# Altium footprint library LED.PcbLib: 6 footprints
Each footprint in its own frame and in the unit in brackets; x right, y up, seen from the top. Pads: shape width x height; smd on the part's side, far side on the other; paste and mask are expansions set on the pad; w line width, h text height; cw(c..) or ccw(c..) is an arc to the next point about the centre after c.
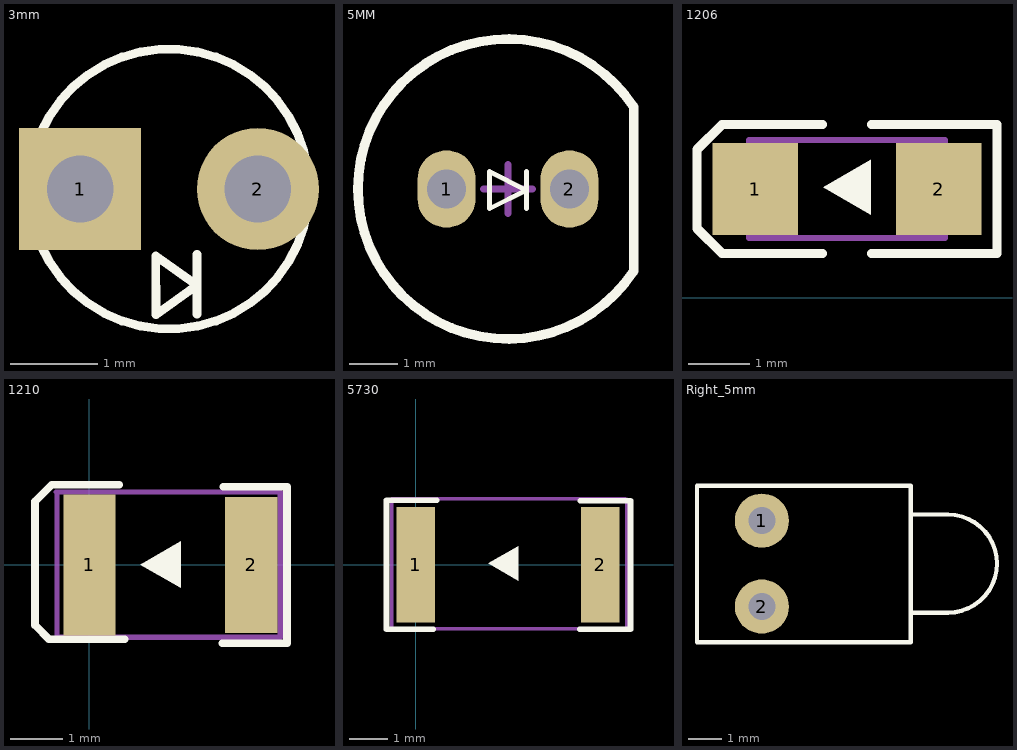
[diagram p0: the footprints below, top view; thin cyan lines are the x and y axes]

## 3mm [mil]
pads (2):
  rect 55x55 hole 30: 1(11191.73,8595.87)
  round 55 hole 30: 2(11271.73,8595.87)
Top Overlay:
  circle w3.94: c11231.73,8595.87 r62.99
  lines w3.94: 11225.83,8539.57 11225.82,8565.78 11244.33,8552.56 11225.93,8539.42 ; 11244.33,8539.57 11244.33,8566.34
3D body "LED.STEP": height 153.55, standoff -59.05, extent 11162.83,8526.87 11300.63,8664.66

## 5MM [mm]
pads (2):
  oval 1.2x1.6 hole 0.8: 1(105.161,56.101) 2(107.701,56.101)
Top Overlay:
  lines w0.1: 106.812,55.698 106.812,56.46 ; 106.05,55.698 106.05,56.46 106.812,56.079 106.05,55.698
  lines w0.2: 109.031,54.401 109.031,57.801 ; 109.031,54.413 cw(c106.431,56.101) 109.031,57.789
Mechanical 15:
  lines w0.15: 105.931,56.101 106.931,56.101 ; 106.431,55.601 106.431,56.601
3D body "SW3dPS-LEDd5Y.STEP": height 12.31, standoff -2.49, extent 103.431,53.091 108.851,59.111

## 1206 [mm]
pads (2):
  rect 1.4x1.5 smd: 1(-4.652,1.783) 2(-1.652,1.783)
Top Overlay:
  region: -3.542,1.808 -2.762,2.258 -2.762,1.358
  lines w0.15: -3.552,0.729 -5.198,0.729 -5.606,1.137 -5.606,2.429 -5.198,2.837 -3.552,2.837 ; -2.752,0.729 -0.698,0.729 -0.698,2.837 -2.752,2.837
Mechanical 13:
  lines w0.1: -4.752,0.983 -1.552,0.983 -1.552,2.583 -4.752,2.583 -4.752,0.983
3D body "WL-SMCW_1206_LED.stp": height 0.68, standoff 0, extent -4.752,0.983 -1.552,2.583

## 1210 [mm]
pads (2):
  rect 1x2.7 smd: 1(0,0)
  rect 1x2.6 smd: 2(3.1,0)
Top Overlay:
  region: 0.969,0.009 1.749,0.459 1.749,-0.441
  lines w0.15: 0.572,1.537 -0.724,1.537 -1.041,1.219 -1.041,-1.156 -0.775,-1.422 -0.54,-1.422 0.673,-1.422 ; 2.553,-1.499 3.785,-1.499 3.785,1.499 2.565,1.499
Mechanical 13:
  lines w0.1: -0.635,1.397 3.658,1.397 3.658,-1.384 -0.61,-1.384 ; -0.621,-1.41 -0.621,-0.483 -0.621,1.372

## 5730 [mm]
pads (2):
  rect 1x3 smd: 1(0,0) 2(4.8,0)
Top Overlay:
  region: 1.884,0.035 2.663,0.484 2.663,-0.415
  lines w0.15: -0.762,-1.664 -0.762,1.676 0.546,1.676 ; -0.756,-1.676 0.457,-1.676 ; 4.267,-1.676 5.588,-1.676 5.588,-1.095 5.588,0.575 5.588,1.664 4.28,1.664
Mechanical 13:
  lines w0.1: 5.397,-1.664 -0.621,-1.664 -0.621,-0.483 -0.621,1.714 5.448,1.714 ; 5.486,-1.664 5.486,1.702

## Right_5mm [mm]
pads (2):
  round 1.6 hole 0.8: 1(91.431,60.641) 2(91.431,58.101)
Top Overlay:
  lines w0.127: 95.831,57.921 96.931,57.921 ccw(c96.931,59.371) 96.931,60.821 95.831,60.821 ; 89.513,57.048 95.831,57.048 95.831,61.671 89.513,61.671 89.513,57.048
3D body "LEDd3YC-Yellow.STEP": height 7.31, standoff -2.49, extent 89.504,57.048 98.263,61.671